# EAGLE library part 38720-6310 (library Molex)
10-Position PCB Mount Barrier Block Series: 38720 14-22AWG 15A 300V From Molex Drawing SO-38720-002, Rev A
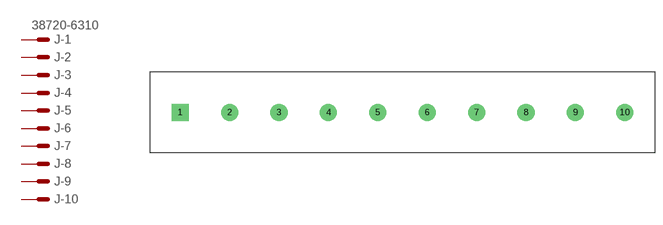
[diagram p4: symbol with the pads of BARRIERBLOCK_PCB10; footprint BARRIERBLOCK_PCB10]

Designator prefix J; gates -1=MV -2=M -3=M -4=M -5=M -6=M -7=M -8=M -9=M -10=M

## 38720-6310  [BARRIERBLOCK_PCB10]
1  -1:S  pas
2  -2:S  pas
3  -3:S  pas
4  -4:S  pas
5  -5:S  pas
6  -6:S  pas
7  -7:S  pas
8  -8:S  pas
9  -9:S  pas
10  -10:S  pas

## Footprint BARRIERBLOCK_PCB10 (pad centres in mm)
drill 1.778 pad 3.302 square: 1 -42.862,0
drill 1.778 pad 3.302: 2 -33.337,0; 3 -23.812,0; 4 -14.287,0; 5 -4.763,0; 6 4.763,0; 7 14.287,0; 8 23.812,0; 9 33.337,0; 10 42.862,0